# Altium schematic symbol library BQ25798.SchLib: 1 symbol
Pins are listed as number, name and electrical type; pins without a type are passive.

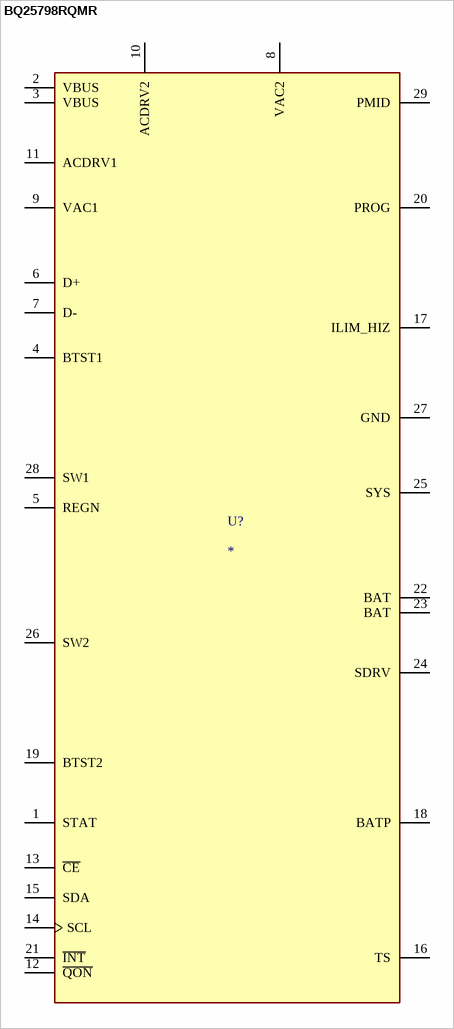
[diagram p0: symbol BQ25798RQMR]

## BQ25798RQMR
designator U?
The BQ25798 is a highly integrated buck-boost battery charger IC from Texas Instruments, designed for single-cell to four-cell lithium-ion and lithium-polymer battery packs. It supports both charging and system power path management with wide input voltage support (3.6V–24V) and configurable charge currents up to 5A. The charger integrates high-efficiency synchronous buck-boost regulation, enabling it to maintain consistent output whether the adapter voltage is above, below, or equal to the battery voltage. Key pins include VBUS (adapter input), BAT (battery connection), SYS (system output), PMID (shared power rail), SDA/SCL (I²C interface), TS (battery NTC input), and CE (charger enable). It also features programmable safety timers, NTC-based temperature sensing, and power source priority control via the PSEL pin. The REGN and VCC LDOs support internal and external biasing needs, while the exposed thermal pad and PGND/AGND provide proper grounding and heat dissipation.; MP: BQ25798RQMR; SnapEDA_Link: https://www.snapeda.com/parts/BQ25798RQMR/Texas+Instruments/view-part/?ref=snap; Package: VFQFN-29 Texas Instruments; Value: *; MF: Texas Instruments; Check_prices: https://www.snapeda.com/parts/BQ25798RQMR/Texas+Instruments/view-part/?ref=eda
footprint IC_BQ25798RQMR (The BQ25798 is a highly integrated buck-boost battery charger IC from Texas Instruments, designed for single-cell to four-cell lithium-ion and lithium-polymer battery packs. It supports both charging and system power path management with wide input voltage support (3.6V–24V) and configurable charge currents up to 5A. The charger integrates high-efficiency synchronous buck-boost regulation, enabling it to maintain consistent output whether the adapter voltage is above, below, or equal to the battery voltage. Key pins include VBUS (adapter input), BAT (battery connection), SYS (system output), PMID (shared power rail), SDA/SCL (I²C interface), TS (battery NTC input), and CE (charger enable). It also features programmable safety timers, NTC-based temperature sensing, and power source priority control via the PSEL pin. The REGN and VCC LDOs support internal and external biasing needs, while the exposed thermal pad and PGND/AGND provide proper grounding and heat dissipation.)
pins: 1 STAT, 2 VBUS, 3 VBUS, 4 BTST1, 5 REGN, 6 D+, 7 D-, 8 VAC2, 9 VAC1, 10 ACDRV2, 11 ACDRV1, 12 ~{QON}, 13 ~{CE}, 14 SCL, 15 SDA, 16 TS, 17 ILIM_HIZ, 18 BATP, 19 BTST2, 20 PROG, 21 ~{INT}, 22 BAT, 23 BAT, 24 SDRV, 25 SYS, 26 SW2, 27 GND, 28 SW1, 29 PMID